# Altium footprint library SOIC-4.PcbLib: 1 footprints
Each footprint in its own frame and in the unit in brackets; x right, y up, seen from the top. Pads: shape width x height; smd on the part's side, far side on the other; paste and mask are expansions set on the pad; w line width, h text height; cw(c..) or ccw(c..) is an arc to the next point about the centre after c.
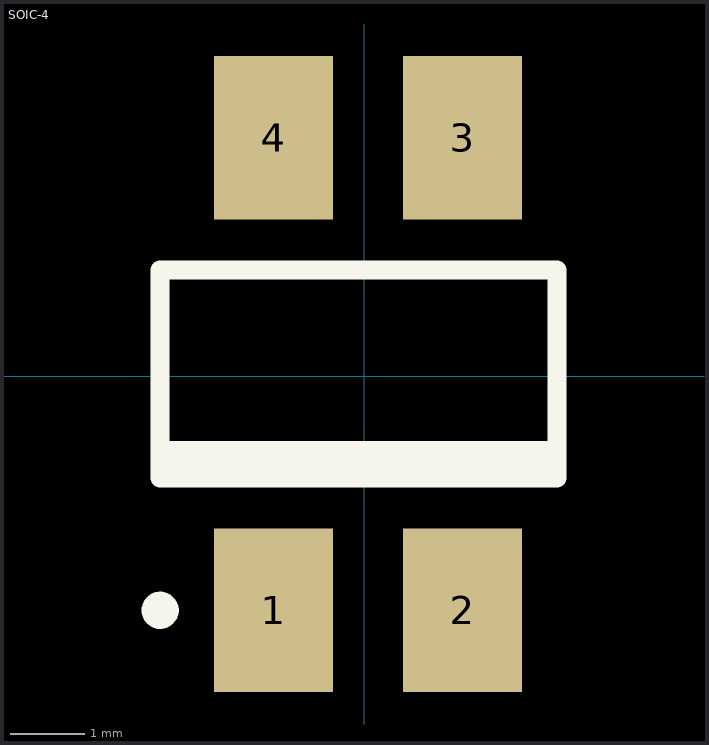
[diagram p0: the footprint, top view; thin cyan lines are the x and y axes]

## SOIC-4 [mm]
height 3
pads (4):
  rect 1.6x2.2 smd: 1(-1.216,-3.148) 2(1.324,-3.148) 3(1.324,3.202) 4(-1.216,3.202)
Top Overlay:
  circle w0.25: c-2.74,-3.148 r0.125
  lines w0.254: -2.74,-1.2 2.424,-1.2 ; -2.74,-1 2.594,-1 ; -2.74,-1.37 2.594,-1.37 2.594,1.424 -2.74,1.424 -2.74,-1.37
3D body: height 2.9, standoff 0, extent -2.475,-3.3 2.475,3.386